# Altium footprint library CON-FFC_FPC.PcbLib: 3 footprints
Each footprint in its own frame and in the unit in brackets; x right, y up, seen from the top. Pads: shape width x height; smd on the part's side, far side on the other; paste and mask are expansions set on the pad; w line width, h text height; cw(c..) or ccw(c..) is an arc to the next point about the centre after c.
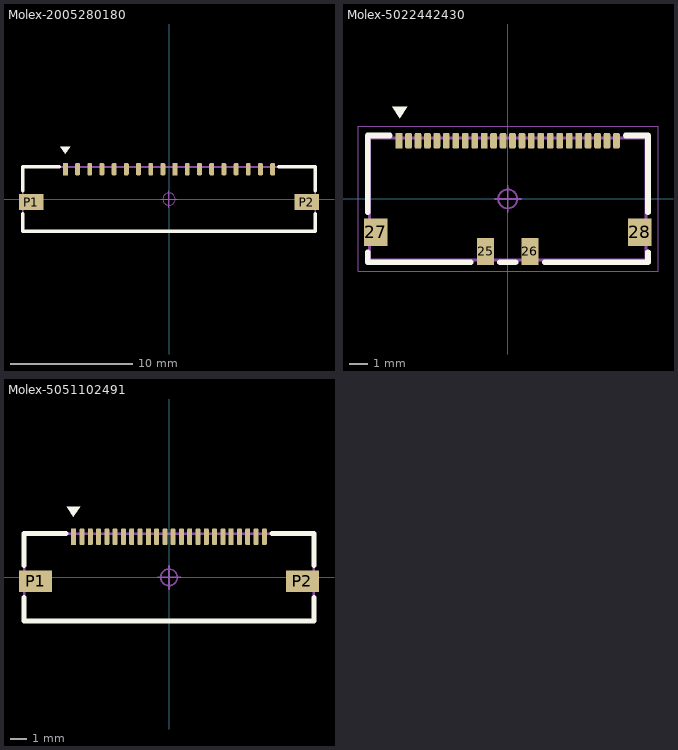
[diagram p0: the footprints below, top view; thin cyan lines are the x and y axes]

## Molex-2005280180 [mm] "18 pin"
height 1.9
pads (20):
  rect 0.4x1 smd: 1(-8.5,2.45) 10(0.5,2.45)
  rrect50% 0.4x1 smd: 2(-7.5,2.45) 3(-6.5,2.45) 4(-5.5,2.45) 5(-4.5,2.45) 6(-3.5,2.45) 7(-2.5,2.45) 8(-1.5,2.45) 9(-0.5,2.45) 11(1.5,2.45) 12(2.5,2.45) 13(3.5,2.45) 14(4.5,2.45) 15(5.5,2.45) 16(6.5,2.45) 17(7.5,2.45) 18(8.5,2.45)
  rect 2x1.3 smd: P1(-11.3,-0.25) P2(11.3,-0.25)
Top Overlay:
  region: -8.1,4.3 -8.9,4.3 -8.5,3.7
  lines w0.3: -11.989,-1.219 -11.989,-2.642 11.989,-2.642 11.989,-1.219 ; -11.989,0.711 -11.989,2.642 -9.017,2.642 ; 9.017,2.642 11.989,2.642 11.989,0.711
Top Assembly:
  lines w0.152: -11.989,-2.642 11.989,-2.642 11.989,2.642 -11.989,2.642 -11.989,-2.642
Top Designator:
  text ".Designator" at -3.8,-2.025 h1
Top Component Center:
  circle w0.1: c0,0 r0.5
  lines w0.1: -0.686,0 0.711,0 ; -0.001,-0.706 -0.001,0.691
3D body "2005280180.stp": height 1.88, standoff -0.02, extent -12,-2.667 12,2.633

## Molex-5022442430 [mil] "24 pin"
height 91.73
pads (28):
  rect 14x33 smd: 1(-226.38,121.25) 10(-49.21,121.25) 20(147.64,121.25)
  rrect50% 14x33 smd: 2(-206.69,121.25) 3(-187.01,121.25) 4(-167.32,121.25) 5(-147.64,121.25) 6(-127.95,121.25) 7(-108.27,121.25) 8(-88.58,121.25) 9(-68.9,121.25) 11(-29.53,121.25) 12(-9.84,121.25) 13(9.84,121.25) 14(29.53,121.25) 15(49.21,121.25) 16(68.9,121.25) 17(88.58,121.25) 18(108.27,121.25) 19(127.95,121.25) 21(167.32,121.25) 22(187.01,121.25) 23(206.69,121.25) 24(226.38,121.25)
  rect 35x57 smd: 25(-46.26,-109.46) 26(46.26,-109.46)
  rect 49x57 smd: 27(-275.2,-69.69) 28(275.2,-69.69)
Top Overlay:
  region: -209.65,191.93 -241.14,191.93 -225.39,168.31
  lines w11.81: -292,-111 -292,-132 -77,-132 ; -292,-28 -292,132 -246,132 ; -16,-132 16,-132 ; 77,-132 292,-132 292,-111 ; 246,132 292,132 292,-28
Top Assembly:
  lines w6: -288,-127 288,-127 288,127 -288,127 -288,-127
Top Designator:
  text ".Designator" at -141.73,52.17 h39.37
Top Component Outline:
  lines w1.97: -312.01,-150.59 312.99,-150.59 312.99,151.58 -312.01,151.58 -312.01,-150.59
Top Component Center:
  circle w3.94: c0,0 r19.68
  lines w3.94: -27,0 28,0 ; -0.03,-27.8 -0.03,27.2
3D body "5022442430.stp": height 91.54, standoff -0.2, extent -287.4,-129.33 287.4,125

## Molex-5051102491 [mm] "24 pin"
height 1.9
pads (26):
  rect 0.3x1 smd: 1(-5.75,2.45) 10(-1.25,2.45) 20(3.75,2.45)
  rrect50% 0.3x1 smd: 2(-5.25,2.45) 3(-4.75,2.45) 4(-4.25,2.45) 5(-3.75,2.45) 6(-3.25,2.45) 7(-2.75,2.45) 8(-2.25,2.45) 9(-1.75,2.45) 11(-0.75,2.45) 12(-0.25,2.45) 13(0.25,2.45) 14(0.75,2.45) 15(1.25,2.45) 16(1.75,2.45) 17(2.25,2.45) 18(2.75,2.45) 19(3.25,2.45) 21(4.25,2.45) 22(4.75,2.45) 23(5.25,2.45) 24(5.75,2.45)
  rect 2x1.3 smd: P1(-8.05,-0.25) P2(8.05,-0.25)
Top Overlay:
  region: -5.366,4.25 -6.166,4.25 -5.766,3.65
  lines w0.3: -8.738,-1.219 -8.738,-2.642 8.738,-2.642 8.738,-1.219 ; -8.738,0.711 -8.738,2.642 -6.223,2.642 ; 6.223,2.642 8.738,2.642 8.738,0.711
Top Assembly:
  lines w0.152: -8.738,-2.642 8.738,-2.642 8.738,2.642 -8.738,2.642 -8.738,-2.642
Top Designator:
  text ".Designator" at -3.9,-2.025 h1
Top Component Center:
  circle w0.1: c0,0 r0.5
  lines w0.1: -0.686,0 0.711,0 ; -0.001,-0.706 -0.001,0.691
3D body "5051102491.stp": height 1.88, standoff -0.02, extent -8.75,-2.603 8.75,2.697